# EAGLE library part 691311400106 (library Terminal Blocks)
7.62MM CLOSE VERTICAL PCB HEADER WR-TBL Manufacturer's datasheet <https://katalog.we-online.com/em/datasheet/6913114001xx.pdf>
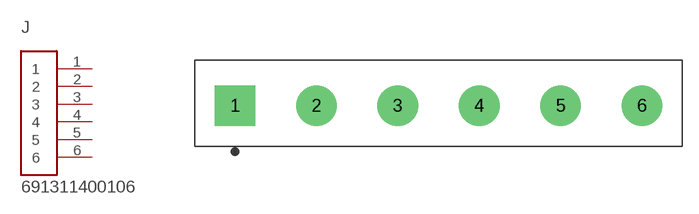
[diagram p6: symbol with the pads of TERMINALBLOCK_PLUGGABLE-6-7.62MM; footprint TERMINALBLOCK_PLUGGABLE-6-7.62MM]

Designator prefix J

## 691311400106 (CREATED_BY: PCBLayout.com; DIGIKEY_PART_NO: 732-2827-ND; MANUFACTURER: WURTH ELEKTRONIK; MPN: 691311400106)  [TERMINALBLOCK_PLUGGABLE-6-7.62MM]
1  1  pas
2  2  pas
3  3  pas
4  4  pas
5  5  pas
6  6  pas

## Footprint TERMINALBLOCK_PLUGGABLE-6-7.62MM (pad centres in mm)
drill 1.6 pad 3.81 square: 1 -19.05,0
drill 1.6 pad 3.81: 2 -11.43,0; 3 -3.81,0; 4 3.81,0; 5 11.43,0; 6 19.05,0